# Altium footprint library lib.PcbLib: 39 footprints (part 3 of 3)
Each footprint in its own frame and in the unit in brackets; x right, y up, seen from the top. Pads: shape width x height; smd on the part's side, far side on the other; paste and mask are expansions set on the pad; w line width, h text height; cw(c..) or ccw(c..) is an arc to the next point about the centre after c.
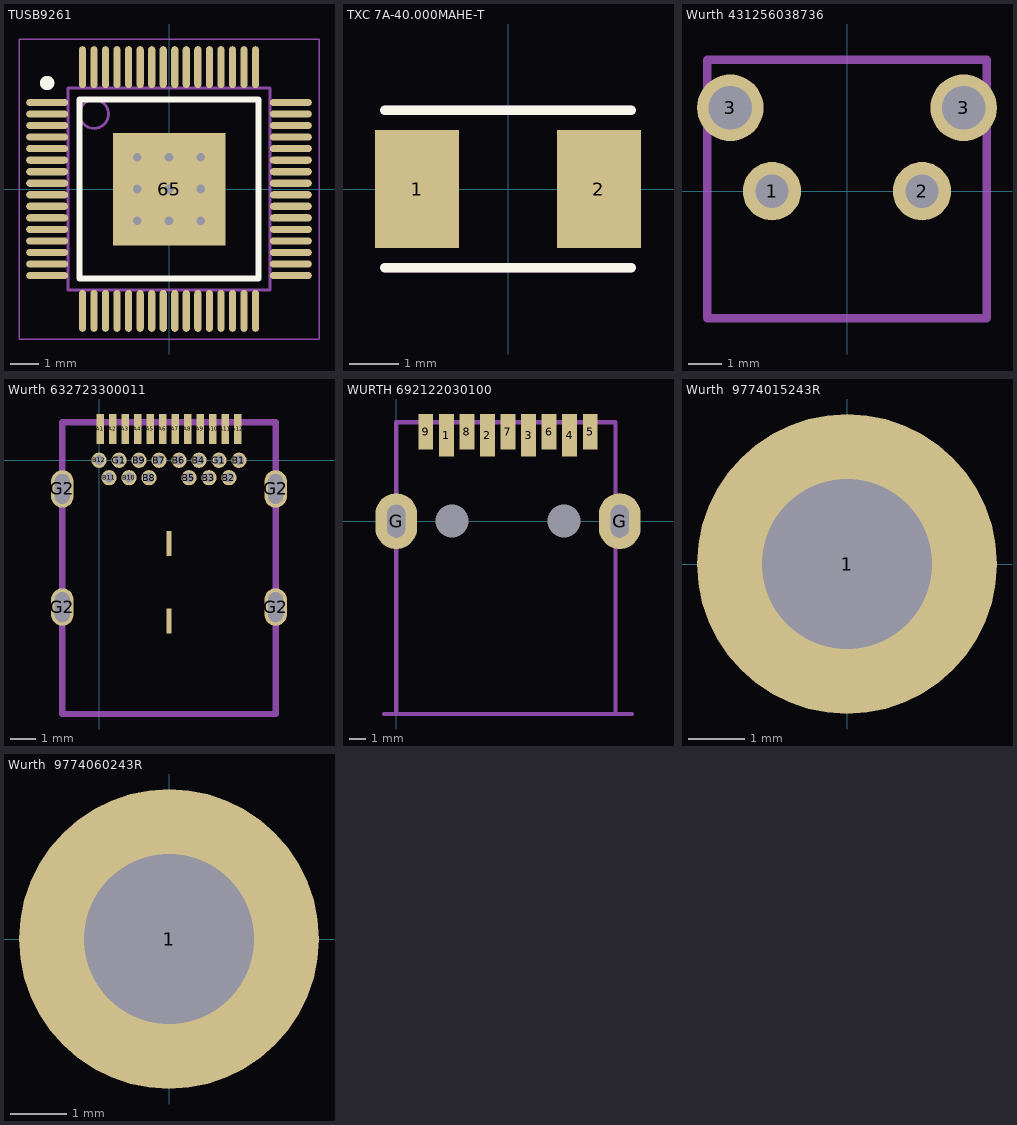
[diagram p2: the footprints below, top view; thin cyan lines are the x and y axes]

## TUSB9261 [mm]
height 1.2
pads (65):
  oval 1.45x0.25 smd: 1(-4.225,3) 2(-4.225,2.6) 3(-4.225,2.2) 4(-4.225,1.8) 5(-4.225,1.4) 6(-4.225,1) 7(-4.225,0.6) 8(-4.225,0.2) 9(-4.225,-0.2) 10(-4.225,-0.6) 11(-4.225,-1) 12(-4.225,-1.4) 13(-4.225,-1.8) 14(-4.225,-2.2) 15(-4.225,-2.6) 16(-4.225,-3) 33(4.225,-3) 34(4.225,-2.6) 35(4.225,-2.2) 36(4.225,-1.8) 37(4.225,-1.4) 38(4.225,-1) 39(4.225,-0.6) 40(4.225,-0.2) 41(4.225,0.2) 42(4.225,0.6) 43(4.225,1) 44(4.225,1.4) 45(4.225,1.8) 46(4.225,2.2) 47(4.225,2.6) 48(4.225,3)
  oval 0.25x1.45 smd: 17(-3,-4.225) 18(-2.6,-4.225) 19(-2.2,-4.225) 20(-1.8,-4.225) 21(-1.4,-4.225) 22(-1,-4.225) 23(-0.6,-4.225) 24(-0.2,-4.225) 25(0.2,-4.225) 26(0.6,-4.225) 27(1,-4.225) 28(1.4,-4.225) 29(1.8,-4.225) 30(2.2,-4.225) 31(2.6,-4.225) 32(3,-4.225) 49(3,4.225) 50(2.6,4.225) 51(2.2,4.225) 52(1.8,4.225) 53(1.4,4.225) 54(1,4.225) 55(0.6,4.225) 56(0.2,4.225) 57(-0.2,4.225) 58(-0.6,4.225) 59(-1,4.225) 60(-1.4,4.225) 61(-1.8,4.225) 62(-2.2,4.225) 63(-2.6,4.225) 64(-3,4.225)
  rect 3.9x3.9 smd: 65(0,0)
via 1.1,-1.1 diameter 0.75 hole 0.3
via 0,-1.1 diameter 0.75 hole 0.3
via -1.1,-1.1 diameter 0.75 hole 0.3
via 1.1,0 diameter 0.75 hole 0.3
via 0,0 diameter 0.75 hole 0.3
via -1.1,0 diameter 0.75 hole 0.3
via 1.1,1.1 diameter 0.75 hole 0.3
via 0,1.1 diameter 0.75 hole 0.3
via -1.1,1.1 diameter 0.75 hole 0.3
Top Overlay:
  circle w0.25: c-4.225,3.675 r0.125
  lines w0.2: -3.1,-3.1 3.1,-3.1 3.1,3.1 -3.1,3.1 -3.1,-3.1
Mechanical 13:
  circle w0.1: c-2.6,2.6 r0.5
  lines w0.1: -3.5,-3.5 3.5,-3.5 3.5,3.5 -3.5,3.5 -3.5,-3.5
Mechanical 15:
  lines w0.05: -5.2,-5.2 5.2,-5.2 5.2,5.2 -5.2,5.2 -5.2,-5.2
  lines w0.1: -0.5,0 0.5,0 ; 0,-0.5 0,0.5
3D body "TUSB9261.step": height 1.2, standoff 0, extent -4.5,-4.5 4.5,4.5

## TXC 7A-40.000MAHE-T [mm]
pads (2):
  rect 1.7x2.4 smd: 1(-1.85,0) 2(1.85,0)
Top Overlay:
  lines w0.2: -2.5,-1.6 2.5,-1.6 ; -2.5,1.6 2.5,1.6
Mechanical 13:
  lines w0.2: -2.5,-1.6 2.5,-1.6 ; -2.5,1.6 2.5,1.6
3D body: height 1.2, standoff 0, extent -2.591,-1.626 2.565,1.626

## Wurth 431256038736 [mm]
pads (4):
  round 1.75 hole 1: 1(-2.25,0) 2(2.25,0)
  round 2 hole 1.3: 3(-3.5,2.5) 3(3.5,2.5)
Mechanical 13:
  lines w0.254: -4.191,-3.81 -4.191,3.937 4.191,3.937 4.191,-3.81 -4.191,-3.81
  text ".Designator" at 2.286,-1.651 h0.5
3D body "STEP-431256038736-rev1.stp": height 7.2, standoff -3.5, extent -4.2,-3.85 4.2,4

## Wurth 632723300011 [mm]
pads (32):
  rect 0.3x1.2 smd: A1(0.05,1.25) A2(0.55,1.25) A3(1.05,1.25)
  rect 0.3x1.2 smd mask+0.102: A4(1.55,1.25) A5(2.05,1.25) A6(2.55,1.25) A7(3.05,1.25) A8(3.55,1.25) A9(4.05,1.25) A10(4.55,1.25) A11(5.05,1.25) A12(5.55,1.25)
  round 0.61 hole 0.4: B1(5.6,0) B2(5.2,-0.7) B3(4.4,-0.7) B4(4,0) B5(3.6,-0.7) B6(3.2,0) B7(2.4,0) B8(2,-0.7) B9(1.6,0) B10(1.2,-0.7) B11(0.4,-0.7) B12(0,0) G1(0.8,0) G1(4.8,0)
  oval 0.9x1.5 / inner oval 0.9x1.5 / far side oval 1.2x1.7 hole 0.6 slot 1.2 at 90 deg: G2(-1.47,-5.88) G2(7.07,-5.88)
  oval 0.9x1.5 hole 0.6 slot 1.2 at 90 deg: G2(-1.47,-1.15) G2(7.07,-1.15)
  rect 0.2x1 smd mask+0.102: G3(2.8,-6.43) G3(2.8,-3.33)
Mechanical 13:
  lines w0.254: -1.47,-10.16 7.07,-10.16 7.07,1.524 -1.47,1.524 -1.47,-10.16
  text ".Designator" at 0.152,-5.105 h0.5
3D body "STEP-632723300011-rev1.stp": height 3.09, standoff -1.77, extent -1.576,-10.286 7.164,1.508

## WURTH 692122030100 [mm]
height 6.86
pads (13):
  rect 0.9x2.6 smd: 1(3.05,5.22) 2(5.55,5.22) 3(8.05,5.22) 4(10.55,5.22)
  rect 0.9x2.15 smd: 5(11.8,5.445) 6(9.3,5.445) 7(6.8,5.445) 8(4.3,5.445) 9(1.8,5.445)
  oval 2.52x3.4 hole 1.1 slot 2 at 90 deg: G(0,0) G(13.6,0)
  round 0 hole 2 unplated paste-1 mask-1: G(3.4,0) G(10.2,0)
Mechanical 13:
  lines w0.254: -0.75,-11.735 14.35,-11.735 ; 0,-11.716 0,5.969 ; 0,6.02 13.335,6.02 13.35,6.005 13.35,-11.716
  text ".Designator" at 4.365,-5.391 h0.5
3D body "Download_STP_692122030100 (rev1).stp": height 7.96, standoff -2.28, extent -0.717,-11.72 14.383,6.08

## Wurth  9774015243R [mm]
pads (1):
  round 5.3 hole 3: 1(0,0)
3D body "9774015243R (rev1).stp": height 1.5, standoff -1.4, extent -2.175,-2.172 2.175,2.172

## Wurth  9774060243R [mm]
height 6
pads (1):
  round 5.3 hole 3: 1(0,0)
3D body "9774060243R (rev1).stp": height 5.9, standoff -1.5, extent -2.175,-2.172 2.175,2.172